# EAGLE library part TPS63070 (library TPS63070)
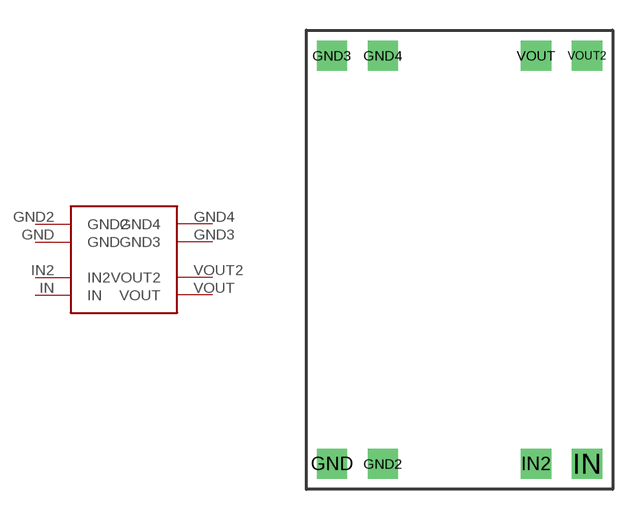
[diagram p0: symbol with the pads of TPS63070; footprint TPS63070]

Designator prefix -

## TPS63070  [TPS63070]
GND  GND
GND2  GND2
GND3  GND3
GND4  GND4
IN  IN
IN2  IN2
VOUT  VOUT
VOUT2  VOUT2

## Footprint TPS63070 (pad centres in mm)
drill 1 square: GND 1.27,-19.05; GND2 3.81,-19.05; GND3 1.27,1.27; GND4 3.81,1.27; IN 13.97,-19.05; IN2 11.43,-19.05; VOUT 11.43,1.27; VOUT2 13.97,1.27